# EAGLE library part RT9361AGE (library RT9361AGE)
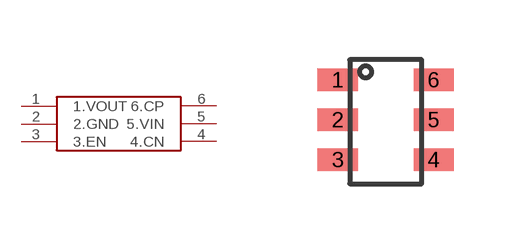
[diagram p0: symbol with the pads of RT9361AGE; footprint RT9361AGE]

Designator prefix -

## RT9361AGE  [RT9361AGE]
1  1.VOUT
2  2.GND
3  3.EN
4  4.CN
5  5.VIN
6  6.CP

## Footprint RT9361AGE (pad centres in mm)
smd 1 x 0.56: 1 -0.3,2.6; 2 -0.3,1.6; 3 -0.3,0.6; 4 2.1,0.6; 5 2.1,1.6; 6 2.1,2.6